# Altium footprint library mw.PcbLib: 123 footprints (part 5 of 8)
Each footprint in its own frame and in the unit in brackets; x right, y up, seen from the top. Pads: shape width x height; smd on the part's side, far side on the other; paste and mask are expansions set on the pad; w line width, h text height; cw(c..) or ccw(c..) is an arc to the next point about the centre after c.
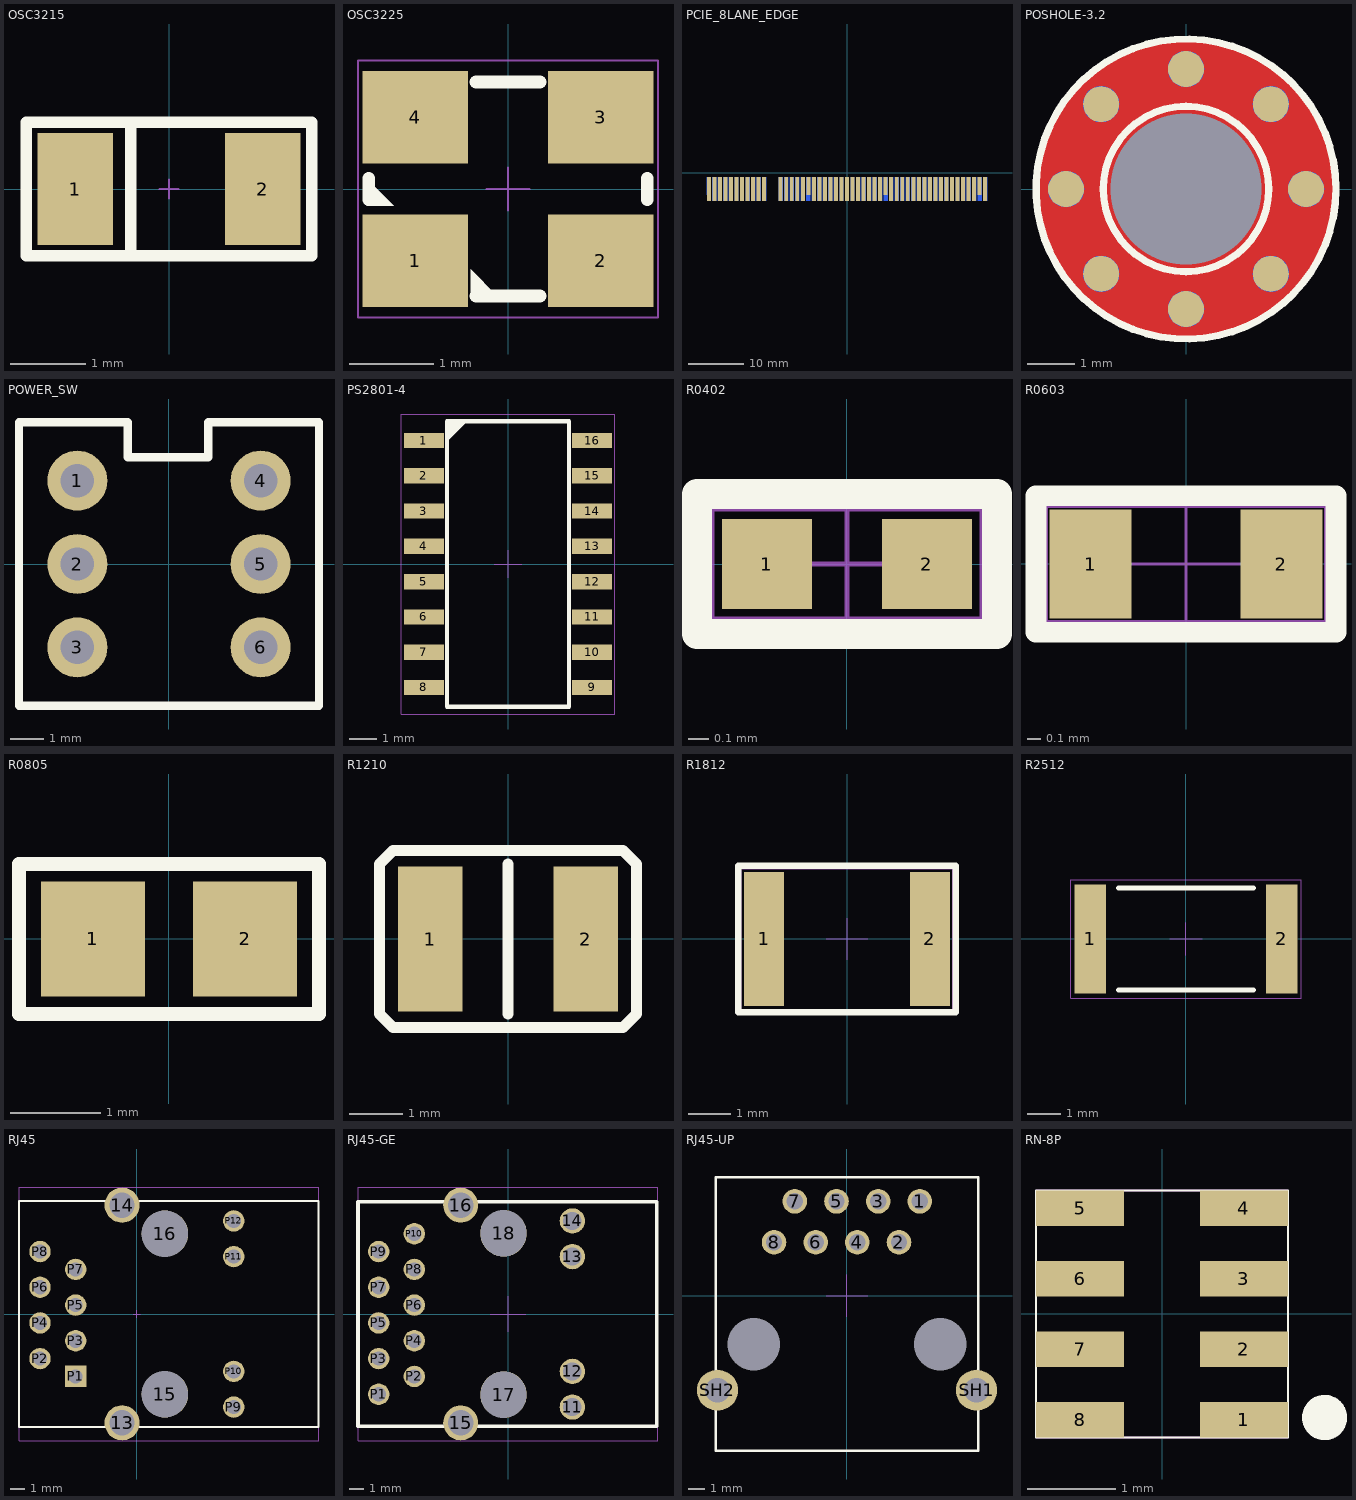
[diagram p4: the footprints below, top view; thin cyan lines are the x and y axes]

## OSC3215 [mm]
pads (2):
  rect 1x1.5 smd: 1(-1.25,0) 2(1.25,0)
Top Overlay:
  lines w0.152: -0.508,-0.889 -0.508,0.889 ; -1.905,-0.889 -1.905,0.889 1.905,0.889 1.905,-0.889 -1.905,-0.889
Mechanical 15:
  lines w0.025: -0.127,0 0.127,0 ; 0,-0.127 0,0.127 ; -1.905,-0.889 -1.905,0.889 1.905,0.889 1.905,-0.889 -1.905,-0.889

## OSC3225 [mm]
pads (4):
  rect 1.25x1.1 smd: 1(-1.1,-0.85) 2(1.1,-0.85) 3(1.1,0.85) 4(-1.1,0.85)
Top Overlay:
  region: -0.127,-1.271 -0.444,-0.954 -0.444,-1.271
  region: -1.355,-0.197 -1.672,0.12 -1.672,-0.197
  lines w0.152: -1.651,-0.127 -1.651,0.127 ; -0.381,-1.27 0.381,-1.27 ; -0.381,1.27 0.381,1.27 ; 1.651,-0.127 1.651,0.127
Mechanical 15:
  lines w0.025: -0.254,0 0.254,0 ; 0,-0.254 0,0.254 ; -1.778,-1.524 -1.778,1.524 1.778,1.524 1.778,-1.524 -1.778,-1.524
3D body "3225.STEP": height 1.13, standoff 0, extent -1.6,-1.25 1.6,1.25

## PCIE_8LANE_EDGE [mil] "PCIE_8LANE_EDGE"
pads (98):
  rect 28x126 smd far side: A1(-984.25,-93.98)
  rect 28x169 smd far side: A2(-944.88,-115.48) A3(-905.51,-115.48) A4(-866.14,-115.48) A5(-826.77,-115.48) A6(-787.4,-115.48) A7(-748.03,-115.48) A8(-708.66,-115.48) A9(-669.29,-115.48) A10(-629.92,-115.48) A11(-590.55,-115.48) A12(-472.44,-115.48) A13(-433.07,-115.48) A14(-393.7,-115.48) A15(-354.33,-115.48) A16(-314.96,-115.48) A17(-275.59,-115.48) A18(-236.22,-115.48) A19(-196.85,-115.48) A20(-157.48,-115.48) A21(-118.11,-115.48) A22(-78.74,-115.48) A23(-39.37,-115.48) A24(0,-115.48) A25(39.37,-115.48) A26(78.74,-115.48) A27(118.11,-115.48) A28(157.48,-115.48) A29(196.85,-115.48) A30(236.22,-115.48) A31(275.59,-115.48) A32(314.96,-115.48) A33(354.33,-115.48) A34(393.7,-115.48) A35(433.07,-115.48) A36(472.44,-115.48) A37(511.81,-115.48) A38(551.18,-115.48) A39(590.55,-115.48) A40(629.92,-115.48) A41(669.29,-115.48) A42(708.66,-115.48) A43(748.03,-115.48) A44(787.4,-115.48) A45(826.77,-115.48) A46(866.14,-115.48) A47(905.51,-115.48) A48(944.88,-115.48) A49(984.25,-115.48)
  rect 28x169 smd: B1(-984.25,-115.48) B2(-944.88,-115.48) B3(-905.51,-115.48) B4(-866.14,-115.48) B5(-826.77,-115.48) B6(-787.4,-115.48) B7(-748.03,-115.48) B8(-708.66,-115.48) B9(-669.29,-115.48) B10(-629.92,-115.48) B11(-590.55,-115.48) B12(-472.44,-115.48) B13(-433.07,-115.48) B14(-393.7,-115.48) B15(-354.33,-115.48) B16(-314.96,-115.48) B18(-236.22,-115.48) B19(-196.85,-115.48) B20(-157.48,-115.48) B21(-118.11,-115.48) B22(-78.74,-115.48) B23(-39.37,-115.48) B24(0,-115.48) B25(39.37,-115.48) B26(78.74,-115.48) B27(118.11,-115.48) B28(157.48,-115.48) B29(196.85,-115.48) B30(236.22,-115.48) B32(314.96,-115.48) B33(354.33,-115.48) B34(393.7,-115.48) B35(433.07,-115.48) B36(472.44,-115.48) B37(511.81,-115.48) B38(551.18,-115.48) B39(590.55,-115.48) B40(629.92,-115.48) B41(669.29,-115.48) B42(708.66,-115.48) B43(748.03,-115.48) B44(787.4,-115.48) B45(826.77,-115.48) B46(866.14,-115.48) B47(905.51,-115.48) B49(984.25,-115.48)
  rect 28x126 smd: B17(-275.59,-93.98) B31(275.59,-93.98) B48(944.88,-93.98)

## POSHOLE-3.2 [mil] "3.2mm hole"
pads (17):
  round 30 smd: ""(-100,0) ""(-70.71,-70.71) ""(-70.71,70.71) ""(0,-100) ""(0,100) ""(70.71,-70.71) ""(70.71,70.71) ""(100,0)
  round 30 smd far side: ""(-100,0) ""(-70.71,-70.71) ""(-70.71,70.71) ""(0,-100) ""(0,100) ""(70.71,-70.71) ""(70.71,70.71) ""(100,0)
  round 0 hole 125.98 unplated: ""(0,0)
Top Layer:
  pour cut-out: 0,-125 -8.19,-125 -24.44,-122.86 -40.27,-118.62 -55.4,-112.35 -69.6,-104.16 -82.59,-94.18 -94.18,-82.59 -104.16,-69.6 -112.35,-55.4 -118.62,-40.27 -122.86,-24.44 -125,-8.19 -125,0 -125,8.19 -122.86,24.44 -118.62,40.27 -112.35,55.4 -104.16,69.6 -94.18,82.59 -82.59,94.18 -69.6,104.16 -55.4,112.35 -40.27,118.62 -24.44,122.86 -8.19,125 0,125 8.19,125 24.44,122.86 40.27,118.62 55.4,112.35 69.6,104.16 82.59,94.18 94.18,82.59 104.16,69.6 112.35,55.4 118.62,40.27 122.86,24.44 125,8.19 125,0 125,-8.19 122.86,-24.44 118.62,-40.27 112.35,-55.4 104.16,-69.6 94.18,-82.59 82.59,-94.18 69.6,-104.16 55.4,-112.35 40.27,-118.62 24.44,-122.86 8.19,-125
Bottom Layer:
  pour cut-out: 0,-125 -8.19,-125 -24.44,-122.86 -40.27,-118.62 -55.4,-112.35 -69.6,-104.16 -82.59,-94.18 -94.18,-82.59 -104.16,-69.6 -112.35,-55.4 -118.62,-40.27 -122.86,-24.44 -125,-8.19 -125,0 -125,8.19 -122.86,24.44 -118.62,40.27 -112.35,55.4 -104.16,69.6 -94.18,82.59 -82.59,94.18 -69.6,104.16 -55.4,112.35 -40.27,118.62 -24.44,122.86 -8.19,125 0,125 8.19,125 24.44,122.86 40.27,118.62 55.4,112.35 69.6,104.16 82.59,94.18 94.18,82.59 104.16,69.6 112.35,55.4 118.62,40.27 122.86,24.44 125,8.19 125,0 125,-8.19 122.86,-24.44 118.62,-40.27 112.35,-55.4 104.16,-69.6 94.18,-82.59 82.59,-94.18 69.6,-104.16 55.4,-112.35 40.27,-118.62 24.44,-122.86 8.19,-125
Top Overlay:
  circle w6: c0,0 r68.9
  circle w6: c0,0 r125
Bottom Overlay:
  circle w6: c0,0 r125
  circle w6: c0,0 r68.9
Mechanical 15:
  circle w1: c0,0 r125
  lines w1: -20,0 20,0 ; 0,-20 0,20

## POWER_SW [mm] "POWER_SW"
pads (6):
  round 1.8 hole 1: 1(-2.75,2.5) 2(-2.75,0) 3(-2.75,-2.5) 4(2.75,2.5) 5(2.75,0) 6(2.75,-2.5)
Top Overlay:
  lines w0.254: -4.5,-4.25 4.5,-4.25 4.5,4.25 1.175,4.25 1.175,3.2 -1.238,3.2 -1.238,4.25 -4.5,4.25 -4.5,-4.25
Mechanical 12:
  lines w0.025: -4.5,4.25 -4.5,-4.25 4.5,-4.25 4.5,4.25

## PS2801-4 [mm] "SOP, 16-Leads, Body 10.28x4.40mm, Pitch 1.27mm, IPC High Density"
height 2.2
pads (16):
  rect 1.45x0.55 smd: 1(-3.025,4.445) 2(-3.025,3.175) 3(-3.025,1.905) 4(-3.025,0.635) 5(-3.025,-0.635) 6(-3.025,-1.905) 7(-3.025,-3.175) 8(-3.025,-4.445) 9(3.025,-4.445) 10(3.025,-3.175) 11(3.025,-1.905) 12(3.025,-0.635) 13(3.025,0.635) 14(3.025,1.905) 15(3.025,3.175) 16(3.025,4.445)
Top Overlay:
  region: -1.478,5.126 -2.2,4.404 -2.2,5.14
  lines w0.152: -2.2,-5.14 -2.2,5.14 2.2,5.14 2.2,-5.14 -2.2,-5.14
Mechanical 15:
  lines w0.025: -0.5,0 0.5,0 ; 0,-0.5 0,0.5 ; -3.85,-5.4 -3.85,5.4 3.85,5.4 3.85,-5.4 -3.85,-5.4

## R0402 [mm] "R0402"
pads (2):
  rect 0.45x0.45 smd: 1(-0.4,0) 2(0.4,0)
Top Overlay:
  lines w0.152: -0.75,-0.35 0.75,-0.35 0.75,0.35 -0.75,0.35 -0.75,-0.35
Mechanical 15:
  lines w0.025: -0.275,0 0.275,0 ; 0,-0.275 0,0.275 ; -0.674,-0.274 0.674,-0.274 0.674,0.274 -0.674,0.274 -0.674,-0.274
3D body "0402.STEP": height 0.3, standoff 0, extent -0.505,-0.247 0.495,0.254

## R0603 [mm] "R0603"
pads (2):
  rect 0.6x0.8 smd: 1(-0.7,-0.001) 2(0.7,-0.001)
Top Overlay:
  lines w0.152: -1.1,-0.501 -1.1,0.499 1.1,0.499 1.1,-0.501 -1.1,-0.501
Mechanical 15:
  lines w0.025: -0.45,-0.001 0.45,-0.001 ; 0,-0.451 0,0.449 ; -1.024,-0.425 1.024,-0.425 1.024,0.423 -1.024,0.423 -1.024,-0.425
3D body "0603.STEP": height 0.4, standoff 0, extent -0.801,-0.4 0.799,0.4

## R0805 [mil]
pads (2):
  rect 45x50 smd: 1(-33,0) 2(33,0)
Top Overlay:
  lines w6: -65,-32.5 65,-32.5 65,32.5 -65,32.5 -65,-32.5

## R1210 [mm] "R1210"
pads (2):
  rect 1.2x2.7 smd: 1(-1.45,-0.007) 2(1.45,-0.007)
Top Overlay:
  lines w0.203: 0,-1.404 0,1.39 ; -2.4,-1.404 -2.146,-1.658 2.146,-1.658 2.4,-1.404 2.4,1.39 2.146,1.644 -2.146,1.644 -2.4,1.39 -2.4,-1.404

## R1812 [mm]
height 0.6
pads (2):
  rect 0.95x3.2 smd: 1(-1.975,0) 2(1.975,0)
Top Overlay:
  lines w0.152: -2.591,-1.75 2.591,-1.75 2.591,1.75 -2.591,1.75 -2.591,-1.75
Mechanical 15:
  lines w0.025: -0.5,0 0.5,0 ; 0,-0.5 0,0.5 ; -2.515,-1.676 2.515,-1.676 2.515,1.676 -2.515,1.676 -2.515,-1.676
3D body "1812.STEP": height 0.6, standoff 0, extent -2.25,-1.6 2.25,1.6

## R2512 [mm] "Chip Resistor, 2-Leads, Body 6.35x3.20mm, IPC High Density"
height 0.55
pads (2):
  rect 0.95x3.3 smd: 1(-2.9,0) 2(2.9,0)
Top Overlay:
  lines w0.152: -2.05,-1.55 2.05,-1.55 ; -2.05,1.55 2.05,1.55
Mechanical 15:
  lines w0.025: -0.5,0 0.5,0 ; 0,-0.5 0,0.5 ; -3.5,-1.8 -3.5,1.8 3.5,1.8 3.5,-1.8 -3.5,-1.8
3D body: height 0.55, standoff 0, extent -2.725,-1.7 2.725,1.7
3D body: height 0.55, standoff 0, extent -3.225,-1.7 -2.725,1.7
3D body: height 0.55, standoff 0, extent 2.725,-1.7 3.225,1.7

## RJ45 [mm]
pads (16):
  round 2.5 hole 1.8: 13(-1.055,-7.745) 14(-1.055,7.745)
  round 3.3 hole 3.3 unplated: 15(1.995,-5.715) 16(1.995,5.715)
  rect 1.524x1.524 hole 1: P1(-4.355,-4.445)
  round 1.524 hole 1: P2(-6.895,-3.175) P3(-4.355,-1.905) P4(-6.895,-0.635) P5(-4.355,0.635) P6(-6.895,1.905) P7(-4.355,3.175) P8(-6.895,4.445) P9(6.895,-6.625) P10(6.895,-4.085) P11(6.895,4.085) P12(6.895,6.625)
Top Overlay:
  lines w0.152: -8.385,-8.05 -8.385,8.05 12.915,8.05 12.915,-8.05 -8.385,-8.05
Mechanical 15:
  lines w0.025: -0.254,0 0.254,0 ; 0,-0.254 0,0.254 ; -8.391,-9.035 -8.391,9.035 12.963,9.035 12.963,-9.035 -8.391,-9.035

## RJ45-GE [mil]
pads (18):
  round 70.87 hole 51.18: 11(180.41,-260.82) 12(180.41,-160.82) 13(180.41,160.83) 14(180.41,260.83)
  round 98 hole 70.87: 15(-132.58,-305.11) 16(-132.58,305.12)
  round 129.92 hole 129.92: 17(-12.5,-225.98) 18(-12.5,225.99)
  round 60 hole 40: P1(-362.5,-225) P2(-262.5,-175) P3(-362.5,-125) P4(-262.5,-75) P5(-362.5,-25) P6(-262.5,25) P7(-362.5,75) P8(-262.5,125) P9(-362.5,175) P10(-262.5,225)
Top Overlay:
  lines w10: -420.4,-314 -420.4,314 417.1,314 417.1,-314 -420.4,-314
Mechanical 15:
  lines w1: -50,0 50,0 ; 0,-50 0,50 ; -420.37,-355.69 420.37,-355.69 420.37,355.69 -420.37,355.69 -420.37,-355.69
3D body "hr911130a.STEP": height 506.61, standoff -123.31, extent -420.26,-317.1 418.32,318.33

## RJ45-UP [mm]
pads (12):
  round 1.5 hole 1: 1(4.44,5.76) 2(3.17,3.26) 3(1.9,5.76) 4(0.63,3.26) 5(-0.64,5.76) 6(-1.91,3.26) 7(-3.18,5.76) 8(-4.45,3.26)
  round 2.5 hole 1.5: SH1(7.9,-5.76) SH2(-7.9,-5.76)
  round 0 hole 3.2 unplated: ""(-5.7,-2.96) ""(5.7,-2.96)
Top Overlay:
  lines w0.152: -8,-9.46 -8,7.24 8,7.24 8,-9.46 -8,-9.46
Mechanical 15:
  lines w0.025: -1.27,0 1.27,0 ; 0,-1.27 0,1.27 ; -8,-9.46 -8,7.24 8,7.24 8,-9.46 -8,-9.46

## RN-8P [mm] "RN-8P"
pads (8):
  rect 1x0.4 smd: 1(0.929,-1.2) 2(0.929,-0.4) 3(0.929,0.4) 4(0.929,1.2) 5(-0.929,1.2) 6(-0.929,0.4) 7(-0.929,-0.4) 8(-0.929,-1.2)
Top Overlay:
  circle w0.254: c1.844,-1.175 r0.13
  lines w0.025: -1.429,-1.4 1.429,-1.4 1.429,1.4 -1.429,1.4 -1.429,-1.4
Mechanical 14:
  lines w0.025: -1.429,-1.4 1.429,-1.4 1.429,1.4 -1.429,1.4 -1.429,-1.4